# Altium schematic symbol library 2017-07-07_14-19-45.SchLib: 2 symbols
Pins are listed as number, name and electrical type; pins without a type are passive.

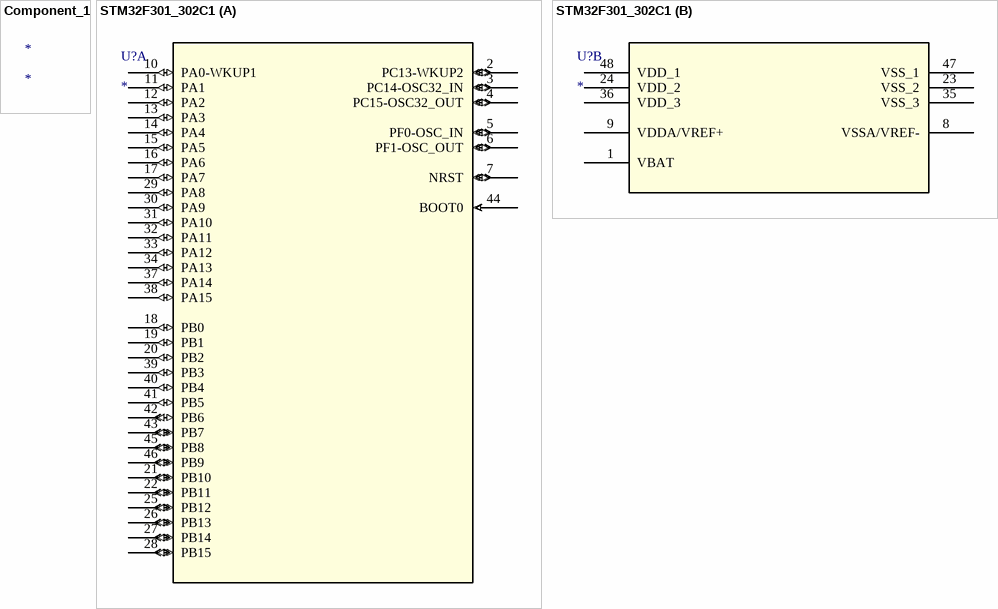
[diagram p0: symbols Component_1 to STM32F301_302C1]

## Component_1
designator *

## STM32F301_302C1
designator U?
Imported; Manufacturer_Part_Number: stm32f301_302c1; Vendor: STMicroelectronics; C: Copyright (C) 2016 Accelerated Designs. All rights reserved; Copyright: Copyright (C) 2016 Accelerated Designs. All rights reserved; Value: Value; Type: Type; RefDes: RefDes
footprint LQFP48-7x7mm
part A pins: 2 PC13-WKUP2 (io), 3 PC14-OSC32_IN (io), 4 PC15-OSC32_OUT (io), 5 PF0-OSC_IN (io), 6 PF1-OSC_OUT (io), 7 NRST (io), 10 PA0-WKUP1 (io), 11 PA1 (io), 12 PA2 (io), 13 PA3 (io), 14 PA4 (io), 15 PA5 (io), 16 PA6 (io), 17 PA7 (io), 18 PB0 (io), 19 PB1 (io), 20 PB2 (io), 21 PB10 (io), 22 PB11 (io), 25 PB12 (io), 26 PB13 (io), 27 PB14 (io), 28 PB15 (io), 29 PA8 (io), 30 PA9 (io), 31 PA10 (io), 32 PA11 (io), 33 PA12 (io), 34 PA13 (io), 37 PA14 (io), 38 PA15 (io), 39 PB3 (io), 40 PB4 (io), 41 PB5 (io), 42 PB6 (io), 43 PB7 (io), 44 BOOT0 (in), 45 PB8 (io), 46 PB9 (io)
part B pins: 1 VBAT (power), 8 VSSA/VREF- (power), 9 VDDA/VREF+ (power), 23 VSS_2 (power), 24 VDD_2 (power), 35 VSS_3 (power), 36 VDD_3 (power), 47 VSS_1 (power), 48 VDD_1 (power)